# Altium schematic symbol library som_cp.SchLib: 1 symbol
Pins are listed as number, name and electrical type; pins without a type are passive.

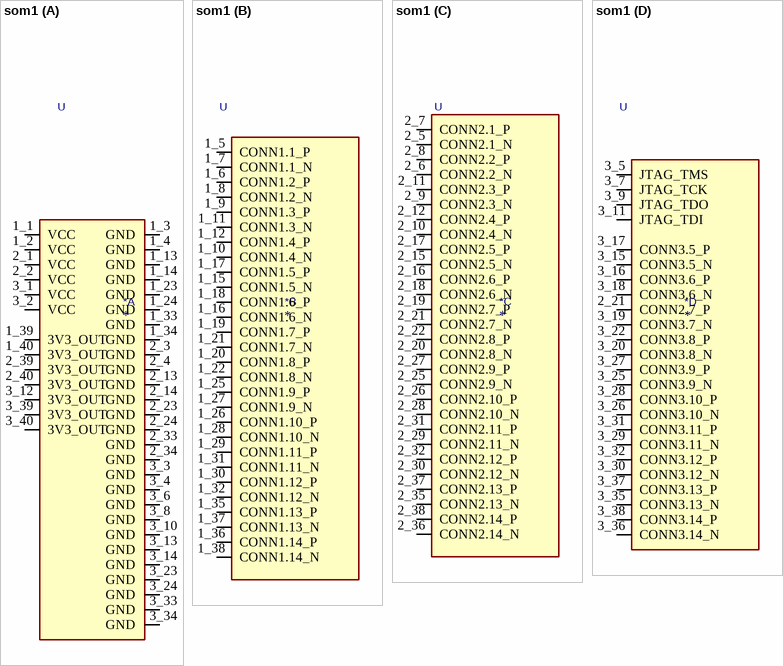
[diagram p0: symbol som1]

## som1
designator *  Reference: U
part A pins: 1_1 VCC, 1_2 VCC, 1_3 GND, 1_4 GND, 1_13 GND, 1_14 GND, 1_23 GND, 1_24 GND, 1_33 GND, 1_34 GND, 1_39 3V3_OUT, 1_40 3V3_OUT, 2_1 VCC, 2_2 VCC, 2_3 GND, 2_4 GND, 2_13 GND, 2_14 GND, 2_23 GND, 2_24 GND, 2_33 GND, 2_34 GND, 2_39 3V3_OUT, 2_40 3V3_OUT, 3_1 VCC, 3_2 VCC, 3_3 GND, 3_4 GND, 3_6 GND, 3_8 GND, 3_10 GND, 3_12 3V3_OUT, 3_13 GND, 3_14 GND, 3_23 GND, 3_24 GND, 3_33 GND, 3_34 GND, 3_39 3V3_OUT, 3_40 3V3_OUT
part B pins: 1_5 CONN1.1_P, 1_6 CONN1.2_P, 1_7 CONN1.1_N, 1_8 CONN1.2_N, 1_9 CONN1.3_P, 1_10 CONN1.4_N, 1_11 CONN1.3_N, 1_12 CONN1.4_P, 1_15 CONN1.5_N, 1_16 CONN1.6_N, 1_17 CONN1.5_P, 1_18 CONN1.6_P, 1_19 CONN1.7_P, 1_20 CONN1.8_P, 1_21 CONN1.7_N, 1_22 CONN1.8_N, 1_25 CONN1.9_P, 1_26 CONN1.10_P, 1_27 CONN1.9_N, 1_28 CONN1.10_N, 1_29 CONN1.11_P, 1_30 CONN1.12_P, 1_31 CONN1.11_N, 1_32 CONN1.12_N, 1_35 CONN1.13_P, 1_36 CONN1.14_P, 1_37 CONN1.13_N, 1_38 CONN1.14_N
part C pins: 2_5 CONN2.1_N, 2_6 CONN2.2_N, 2_7 CONN2.1_P, 2_8 CONN2.2_P, 2_9 CONN2.3_N, 2_10 CONN2.4_N, 2_11 CONN2.3_P, 2_12 CONN2.4_P, 2_15 CONN2.5_N, 2_16 CONN2.6_P, 2_17 CONN2.5_P, 2_18 CONN2.6_N, 2_19 CONN2.7_P, 2_20 CONN2.8_N, 2_21 CONN2.7_N, 2_22 CONN2.8_P, 2_25 CONN2.9_N, 2_26 CONN2.10_P, 2_27 CONN2.9_P, 2_28 CONN2.10_N, 2_29 CONN2.11_N, 2_30 CONN2.12_N, 2_31 CONN2.11_P, 2_32 CONN2.12_P, 2_35 CONN2.13_N, 2_36 CONN2.14_N, 2_37 CONN2.13_P, 2_38 CONN2.14_P
part D pins: 2_21 CONN2.7_P, 3_5 JTAG_TMS, 3_7 JTAG_TCK, 3_9 JTAG_TDO, 3_11 JTAG_TDI, 3_15 CONN3.5_N, 3_16 CONN3.6_P, 3_17 CONN3.5_P, 3_18 CONN3.6_N, 3_19 CONN3.7_N, 3_20 CONN3.8_N, 3_22 CONN3.8_P, 3_25 CONN3.9_N, 3_26 CONN3.10_N, 3_27 CONN3.9_P, 3_28 CONN3.10_P, 3_29 CONN3.11_N, 3_30 CONN3.12_N, 3_31 CONN3.11_P, 3_32 CONN3.12_P, 3_35 CONN3.13_N, 3_36 CONN3.14_N, 3_37 CONN3.13_P, 3_38 CONN3.14_P